# EAGLE library part XRF (library Ciseco Footprints)
XRF Wireless UART Serial Data Module. www.ciseco.co.uk
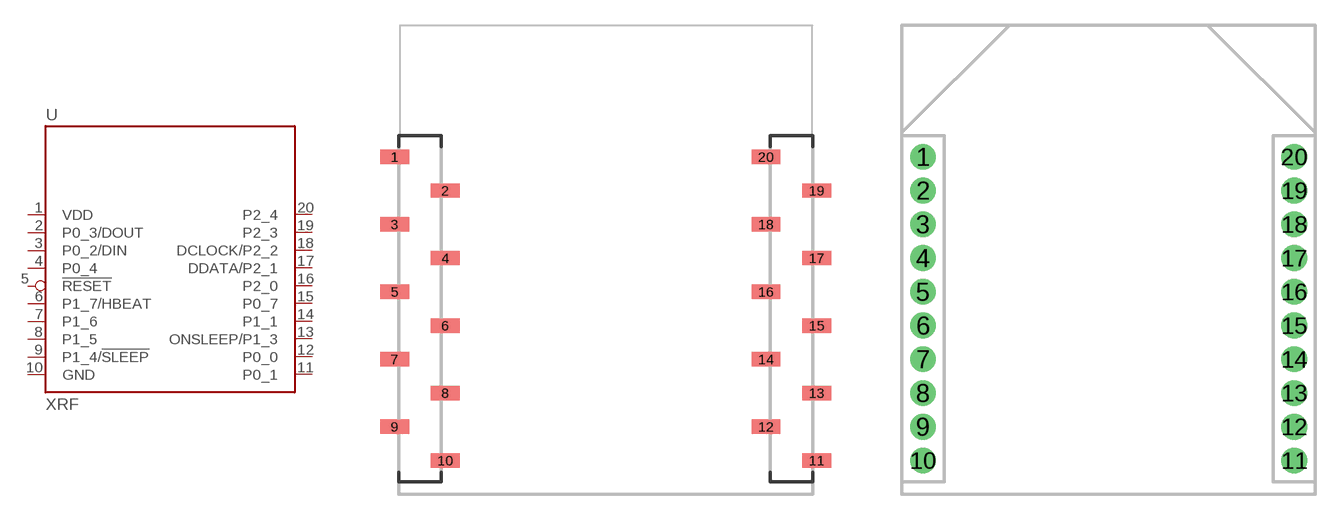
[diagram p1: symbol with the pads of XRF-SMD; footprints XRF-SMD, XRF-NOSILK]

Designator prefix U

## XRF-SMD  [XRF-SMD]
1  VDD  pwr
2  P0_3/DOUT  out
3  P0_2/DIN  in
4  P0_4
5  !RESET  in
6  P1_7/HBEAT
7  P1_6
8  P1_5
9  P1_4/!SLEEP
10  GND  pwr
11  P0_1
12  P0_0
13  ONSLEEP/P1_3
14  P1_1
15  P0_7
16  P2_0  in
17  DDATA/P2_1
18  DCLOCK/P2_2
19  P2_3
20  P2_4

## XRF-NOSILK  [XRF-NOSILK]
Pads as for XRF-SMD

## XRF-LITTLE-SILK  [XRF-LITTLE-SILK]
Pads as for XRF-SMD

## XRF-NOSLIK-LOCK-PINS  [XRF-NOSILK-LOCK-PINS]
Pads as for XRF-SMD

## XRF-NOSILK-LOCK-SOCKET  [XRF-NOSILK-LOCK-SOCKET]
Pads as for XRF-SMD

## XRF-SMD-LITTLE-SILK  [XRF-SMD-LITTLE-SLIK]
Pads as for XRF-SMD

## XRF  [XRF]
Pads as for XRF-SMD

## Footprint XRF-SMD (pad centres in mm)
smd 1.7 x 0.85: 1 -12.5,20; 2 -9.5,18; 3 -12.5,16; 4 -9.5,14; 5 -12.5,12; 6 -9.5,10; 7 -12.5,8; 8 -9.5,6; 9 -12.5,4; 10 -9.5,2; 11 12.5,2; 12 9.5,4; 13 12.5,6; 14 9.5,8; 15 12.5,10; 16 9.5,12; 17 12.5,14; 18 9.5,16; 19 12.5,18; 20 9.5,20

## Footprint XRF-NOSILK (pad centres in mm)
drill 0.8 pad 1.524: 1 -11,20; 2 -11,18; 3 -11,16; 4 -11,14; 5 -11,12; 6 -11,10; 7 -11,8; 8 -11,6; 9 -11,4; 10 -11,2; 11 11,2; 12 11,4; 13 11,6; 14 11,8; 15 11,10; 16 11,12; 17 11,14; 18 11,16; 19 11,18; 20 11,20

## Footprint XRF-LITTLE-SILK (pad centres in mm)
drill 0.8 pad 1.524: 1 -11,20; 2 -11,18; 3 -11,16; 4 -11,14; 5 -11,12; 6 -11,10; 7 -11,8; 8 -11,6; 9 -11,4; 10 -11,2; 11 11,2; 12 11,4; 13 11,6; 14 11,8; 15 11,10; 16 11,12; 17 11,14; 18 11,16; 19 11,18; 20 11,20

## Footprint XRF-NOSILK-LOCK-PINS (pad centres in mm)
As use for the XRF v2.1 PCB
drill 0.737 pad 1.524: 1 -11.095,20; 2 -10.905,18; 3 -11.095,16; 4 -10.905,14; 5 -11.095,12; 6 -10.905,10; 7 -11.095,8; 8 -10.905,6; 9 -11.095,4; 10 -10.905,2; 11 11.095,2; 12 10.905,4; 13 11.095,6; 14 10.905,8; 15 11.095,10; 16 10.905,12; 17 11.095,14; 18 10.905,16; 19 11.095,18; 20 10.905,20

## Footprint XRF-NOSILK-LOCK-SOCKET (pad centres in mm)
As use for Lock Sockets, with refrences marks for largest posible Ciseco modules
drill 0.7 pad 1.524: 1 -11.178,20; 2 -10.822,18; 3 -11.178,16; 4 -10.822,14; 5 -11.178,12; 6 -10.822,10; 7 -11.178,8; 8 -10.822,6; 9 -11.178,4; 10 -10.822,2; 11 11.178,2; 12 10.822,4; 13 11.178,6; 14 10.822,8; 15 11.178,10; 16 10.822,12; 17 11.178,14; 18 10.822,16; 19 11.178,18; 20 10.822,20

## Footprint XRF-SMD-LITTLE-SLIK (pad centres in mm)
smd 1.7 x 0.85: 1 -12.5,20; 2 -9.5,18; 3 -12.5,16; 4 -9.5,14; 5 -12.5,12; 6 -9.5,10; 7 -12.5,8; 8 -9.5,6; 9 -12.5,4; 10 -9.5,2; 11 12.5,2; 12 9.5,4; 13 12.5,6; 14 9.5,8; 15 12.5,10; 16 9.5,12; 17 12.5,14; 18 9.5,16; 19 12.5,18; 20 9.5,20

## Footprint XRF (pad centres in mm)
drill 0.8 pad 1.524: 1 -11,20; 2 -11,18; 3 -11,16; 4 -11,14; 5 -11,12; 6 -11,10; 7 -11,8; 8 -11,6; 9 -11,4; 10 -11,2; 11 11,2; 12 11,4; 13 11,6; 14 11,8; 15 11,10; 16 11,12; 17 11,14; 18 11,16; 19 11,18; 20 11,20